# Altium integrated library Silicon Labs Isolation and Power.IntLib: 421 symbols (part 8 of 19)
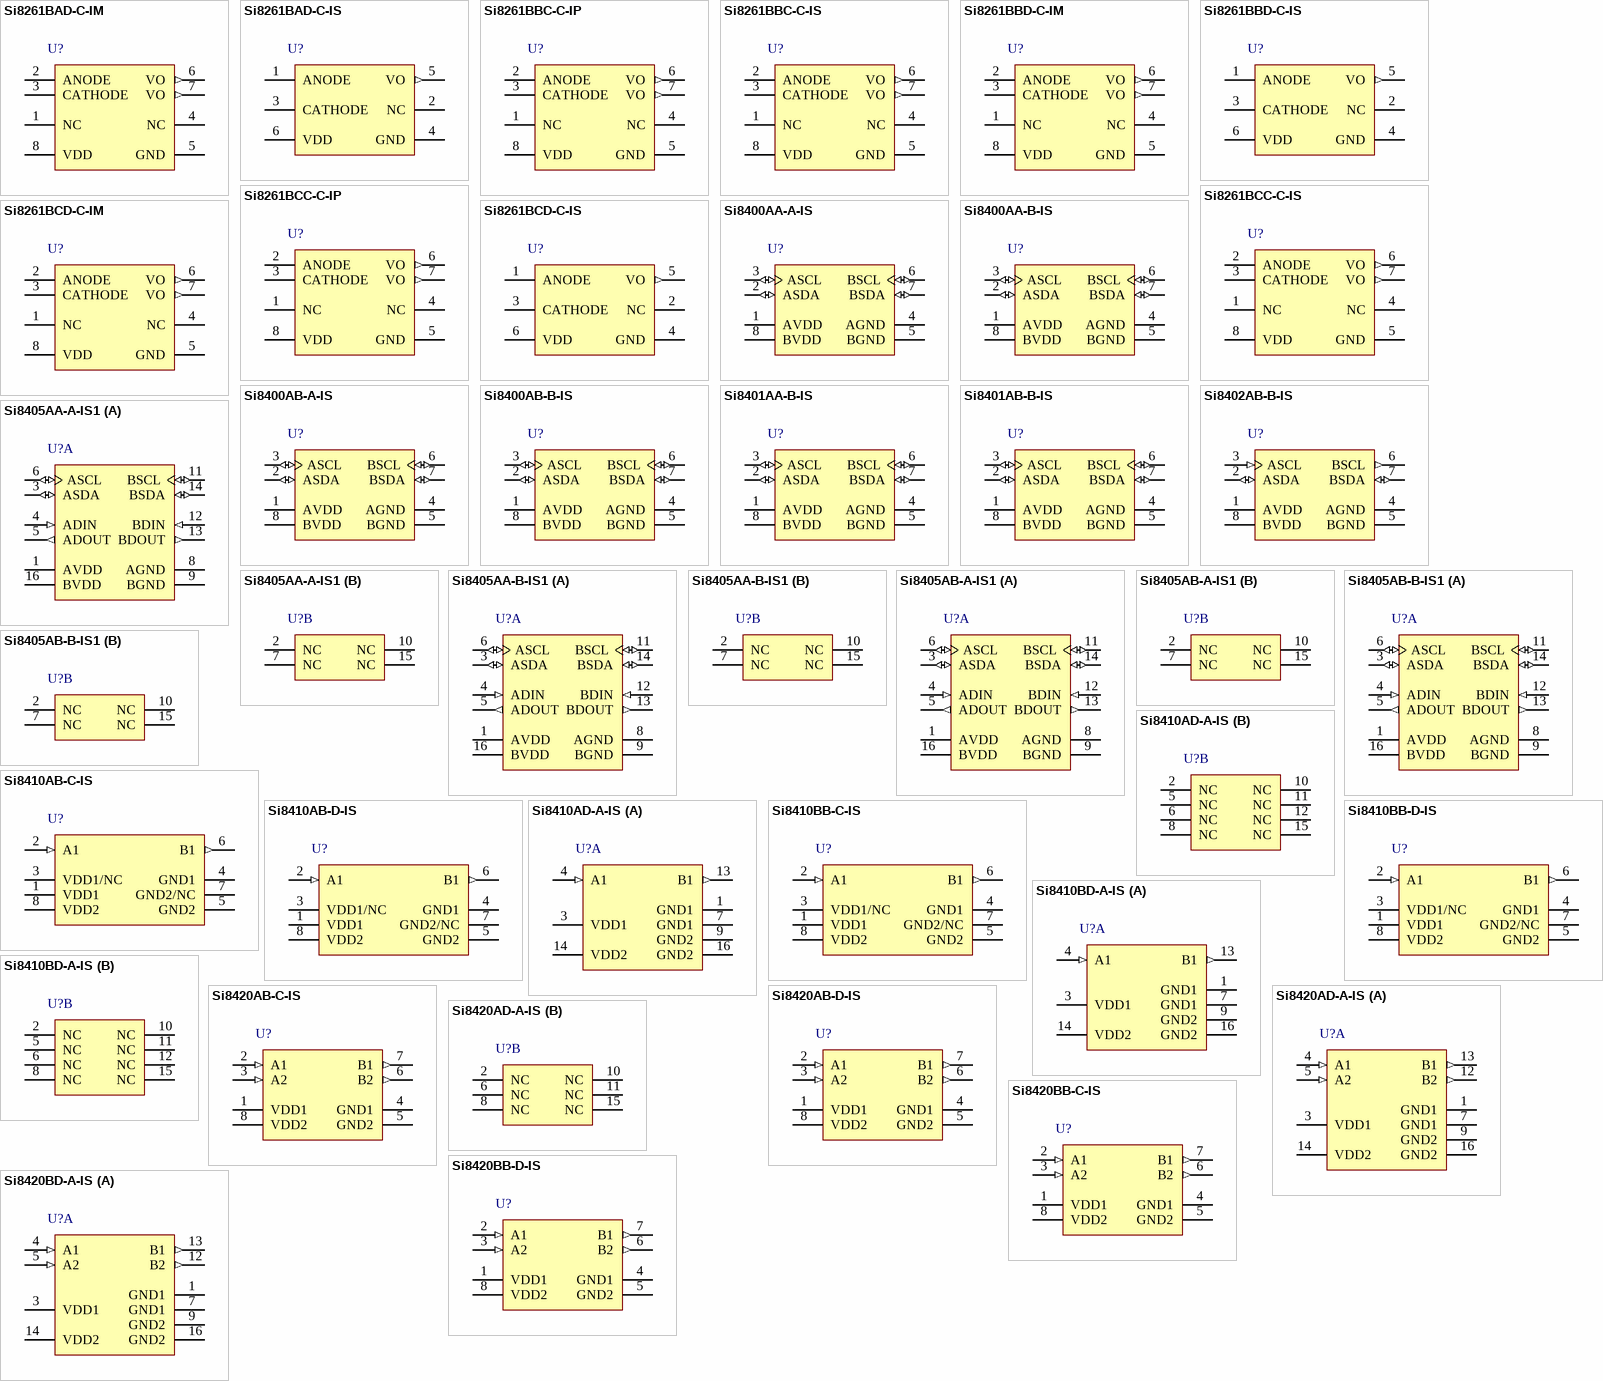
[diagram p21: symbols Si8261BAD-C-IM to Si8420BD-A-IS]

## Si8261BBD-C-IM
designator U?
Led Emulator Input, 4.0 A Isolated Gate Drivers, 5 to 30 V Driver Supply, 5 kVRMS Isolation Rating, -40 to 125 degC, 8-pin LGA; Manufacturer: Silicon Labs; PartNumber: Si8261BBD-C-IM; 10kV surge: TRUE; Driver Supply: 5 to 30 V; Isolation Rating (Input-Output, kVrms): 5; Max. Prop. Delay (ns): 60; Overlap Protection & Dead Time Control: FALSE; UVLO Voltage: 8 V; Sub-Family: ISOdrivers; DatasheetVersion: Rev. 0.9; PackageReference: LGA8; PackageDescription: 8-Pin Land Grid Array, Body 10 x 12.5 mm, Pitch 2.54 mm; Supplier 1: Mouser; Supplier Part Number 1: 634-SI8261BBD-C-IM; Mounting Technology: Surface Mount; Code_IPC: J-STD-020; ComponentLink1Description: Manufacturer URL; ComponentLink1URL: http://www.silabs.com/; ComponentLink2Description: Datasheet; ComponentLink2URL: http://www.silabs.com/Support%20Documents/TechnicalDocs/Si826x.pdf; ComponentLink3Description: Package Specification; ComponentLink3URL: http://www.silabs.com/Support%20Documents/TechnicalDocs/Si826x.pdf
footprint SLAB-LGA8_V (LGA, 8-Leads, Body 12.5x10mm, Pitch 2.54mm)
pins: 1 NC "No connect.", 2 ANODE "Anode of LED emulator. VO follows the signal applied to this input with respect to the CATHODE input.", 3 CATHODE "Cathode of LED emulator. VO follows the signal applied to ANODE with respect to this input", 4 NC "No connect.", 5 GND (power) "External MOSFET source connection and ground reference for VDD. This terminal is typically connected to ground but may be tied to a negative or positive voltage.", 6 VO (out) "Output signal. Both VO pins are required to be shorted together for 4.0 A compliance.", 7 VO (out) "Output signal. Both VO pins are required to be shorted together for 4.0 A compliance.", 8 VDD (power) "Output-side power supply input referenced to GND (30 V max)."

## Si8261BBD-C-IS
designator U?
Led Emulator Input, 4.0 A Isolated Gate Drivers, 5 to 30 V Driver Supply, 5 kVRMS Isolation Rating, -40 to 125 degC, 6-pin SOP; Manufacturer: Silicon Labs; PartNumber: Si8261BBD-C-IS; 10kV surge: TRUE; Driver Supply: 5 to 30 V; Isolation Rating (Input-Output, kVrms): 5; Max. Prop. Delay (ns): 60; Overlap Protection & Dead Time Control: FALSE; UVLO Voltage: 8 V; Sub-Family: ISOdrivers; DatasheetVersion: Rev. 0.9; PackageReference: SDIP6; PackageDescription: 6-Pin SDIP, Body 4.58 x 7.5 mm, Pitch 1.27 mm; Supplier 1: Mouser; Supplier Part Number 1: 634-SI8261BBD-C-IS; Mounting Technology: Surface Mount; ComponentLink1Description: Manufacturer URL; ComponentLink1URL: http://www.silabs.com/; ComponentLink2Description: Datasheet; ComponentLink2URL: http://www.silabs.com/Support%20Documents/TechnicalDocs/Si826x.pdf; ComponentLink3Description: Package Specification; ComponentLink3URL: http://www.silabs.com/Support%20Documents/TechnicalDocs/Si826x.pdf
footprint SLAB-SDIP6_N (SOP, 6-Leads, Body 7.5x4.58mm, Pitch 1.27mm, IPC Medium Density)
footprint SLAB-SDIP6_L (SOP, 6-Leads, Body 7.5x4.58mm, Pitch 1.27mm, IPC High Density)
footprint SLAB-SDIP6_M (SOP, 6-Leads, Body 7.5x4.58mm, Pitch 1.27mm, IPC Low Density)
pins: 1 ANODE "Anode of LED emulator. VO follows the signal applied to this input with respect to the CATHODE input.", 2 NC "No connect.", 3 CATHODE "Cathode of LED emulator. VO follows the signal applied to ANODE with respect to this input.", 4 GND (power) "External MOSFET source connection and ground reference for VDD. This terminal is typically connected to ground but may be tied to a negative or positive voltage.", 5 VO (out) "Output signal.", 6 VDD (power) "Output-side power supply input referenced to GND (30 V max)."

## Si8261BCC-C-IP
designator U?
Led Emulator Input, 4.0 A Isolated Gate Drivers, 5 to 30 V Driver Supply, 3.75 kVRMS Isolation Rating, -40 to 125 degC, 8-pin SOP; Manufacturer: Silicon Labs; PartNumber: Si8261BCC-C-IP; 10kV surge: TRUE; Driver Supply: 5 to 30 V; Isolation Rating (Input-Output, kVrms): 3.75; Max. Prop. Delay (ns): 60; Overlap Protection & Dead Time Control: FALSE; UVLO Voltage: 12 V; Sub-Family: ISOdrivers; DatasheetVersion: Rev. 0.9; PackageReference: DIP8; PackageDescription: 8-Pin Dual In-Line Package, Body 9.65 x 6.35 mm, Pitch 2.54 mm; Supplier 1: Digi-Key; Supplier Part Number 1: 336-2421-5-ND; Supplier 2: Mouser; Supplier Part Number 2: 634-SI8261BCC-C-IP; Mounting Technology: Surface Mount; ComponentLink1Description: Manufacturer URL; ComponentLink1URL: http://www.silabs.com/; ComponentLink2Description: Datasheet; ComponentLink2URL: http://www.silabs.com/Support%20Documents/TechnicalDocs/Si826x.pdf; ComponentLink3Description: Package Specification; ComponentLink3URL: http://www.silabs.com/Support%20Documents/TechnicalDocs/Si826x.pdf
footprint SLAB-DIP8_N (SOP, 8-Leads, Body 9.9x6.6mm, Pitch 2.54mm, IPC Medium Density)
footprint SLAB-DIP8_L (SOP, 8-Leads, Body 9.9x6.6mm, Pitch 2.54mm, IPC High Density)
footprint SLAB-DIP8_M (SOP, 8-Leads, Body 9.9x6.6mm, Pitch 2.54mm, IPC Low Density)
pins: 1 NC "No connect.", 2 ANODE "Anode of LED emulator. VO follows the signal applied to this input with respect to the CATHODE input.", 3 CATHODE "Cathode of LED emulator. VO follows the signal applied to ANODE with respect to this input", 4 NC "No connect.", 5 GND (power) "External MOSFET source connection and ground reference for VDD. This terminal is typically connected to ground but may be tied to a negative or positive voltage.", 6 VO (out) "Output signal. Both VO pins are required to be shorted together for 4.0 A compliance.", 7 VO (out) "Output signal. Both VO pins are required to be shorted together for 4.0 A compliance.", 8 VDD (power) "Output-side power supply input referenced to GND (30 V max)."

## Si8261BCC-C-IS
designator U?
Led Emulator Input, 4.0 A Isolated Gate Drivers, 5 to 30 V Driver Supply, 3.75 kVRMS Isolation Rating, -40 to 125 degC, 8-pin SOIC; Manufacturer: Silicon Labs; PartNumber: Si8261BCC-C-IS; 10kV surge: TRUE; Driver Supply: 5 to 30 V; Isolation Rating (Input-Output, kVrms): 3.75; Max. Prop. Delay (ns): 60; Overlap Protection & Dead Time Control: FALSE; UVLO Voltage: 12 V; Sub-Family: ISOdrivers; DatasheetVersion: Rev. 0.9; PackageReference: SOIC-8-NB; PackageDescription: 8-Pin Narrow Body Plastic Small Outline, Body 4.9 x 3.9 mm, Pitch 1.27 mm; Supplier 1: Digi-Key; Supplier Part Number 1: 336-2420-5-ND; Supplier 2: Mouser; Supplier Part Number 2: 634-SI8261BCC-C-IS; Mounting Technology: Surface Mount; ComponentLink1Description: Manufacturer URL; ComponentLink1URL: http://www.silabs.com/; ComponentLink2Description: Datasheet; ComponentLink2URL: http://www.silabs.com/Support%20Documents/TechnicalDocs/Si826x.pdf; ComponentLink3Description: Package Specification; ComponentLink3URL: http://www.silabs.com/Support%20Documents/TechnicalDocs/Si8220-21.pdf
footprint SLAB-SOIC-8-NB_N (SOIC, 8-Leads, Body 5x4mm, Pitch 1.27mm, IPC Medium Density)
footprint SLAB-SOIC-8-NB_L (SOIC, 8-Leads, Body 5x4mm, Pitch 1.27mm, IPC High Density)
footprint SLAB-SOIC-8-NB_M (SOIC, 8-Leads, Body 5x4mm, Pitch 1.27mm, IPC Low Density)
pins: 1 NC "No connect.", 2 ANODE "Anode of LED emulator. VO follows the signal applied to this input with respect to the CATHODE input.", 3 CATHODE "Cathode of LED emulator. VO follows the signal applied to ANODE with respect to this input", 4 NC "No connect.", 5 GND (power) "External MOSFET source connection and ground reference for VDD. This terminal is typically connected to ground but may be tied to a negative or positive voltage.", 6 VO (out) "Output signal. Both VO pins are required to be shorted together for 4.0 A compliance.", 7 VO (out) "Output signal. Both VO pins are required to be shorted together for 4.0 A compliance.", 8 VDD (power) "Output-side power supply input referenced to GND (30 V max)."

## Si8261BCD-C-IM
designator U?
Led Emulator Input, 4.0 A Isolated Gate Drivers, 5 to 30 V Driver Supply, 5 kVRMS Isolation Rating, -40 to 125 degC, 8-pin LGA; Manufacturer: Silicon Labs; PartNumber: Si8261BCD-C-IM; 10kV surge: TRUE; Driver Supply: 5 to 30 V; Isolation Rating (Input-Output, kVrms): 5; Max. Prop. Delay (ns): 60; Overlap Protection & Dead Time Control: FALSE; UVLO Voltage: 12 V; Sub-Family: ISOdrivers; DatasheetVersion: Rev. 0.9; PackageReference: LGA8; PackageDescription: 8-Pin Land Grid Array, Body 10 x 12.5 mm, Pitch 2.54 mm; Supplier 1: Digi-Key; Supplier Part Number 1: 336-2419-ND; Supplier 2: Mouser; Supplier Part Number 2: 634-SI8261BCD-C-IM; Mounting Technology: Surface Mount; Code_IPC: J-STD-020; ComponentLink1Description: Manufacturer URL; ComponentLink1URL: http://www.silabs.com/; ComponentLink2Description: Datasheet; ComponentLink2URL: http://www.silabs.com/Support%20Documents/TechnicalDocs/Si826x.pdf; ComponentLink3Description: Package Specification; ComponentLink3URL: http://www.silabs.com/Support%20Documents/TechnicalDocs/Si826x.pdf
footprint SLAB-LGA8_V (LGA, 8-Leads, Body 12.5x10mm, Pitch 2.54mm)
pins: 1 NC "No connect.", 2 ANODE "Anode of LED emulator. VO follows the signal applied to this input with respect to the CATHODE input.", 3 CATHODE "Cathode of LED emulator. VO follows the signal applied to ANODE with respect to this input", 4 NC "No connect.", 5 GND (power) "External MOSFET source connection and ground reference for VDD. This terminal is typically connected to ground but may be tied to a negative or positive voltage.", 6 VO (out) "Output signal. Both VO pins are required to be shorted together for 4.0 A compliance.", 7 VO (out) "Output signal. Both VO pins are required to be shorted together for 4.0 A compliance.", 8 VDD (power) "Output-side power supply input referenced to GND (30 V max)."

## Si8261BCD-C-IS
designator U?
Led Emulator Input, 4.0 A Isolated Gate Drivers, 5 to 30 V Driver Supply, 5 kVRMS Isolation Rating, -40 to 125 degC, 6-pin SOP; Manufacturer: Silicon Labs; PartNumber: Si8261BCD-C-IS; 10kV surge: TRUE; Driver Supply: 5 to 30 V; Isolation Rating (Input-Output, kVrms): 5; Max. Prop. Delay (ns): 60; Overlap Protection & Dead Time Control: FALSE; UVLO Voltage: 12 V; Sub-Family: ISOdrivers; DatasheetVersion: Rev. 0.9; PackageReference: SDIP6; PackageDescription: 6-Pin SDIP, Body 4.58 x 7.5 mm, Pitch 1.27 mm; Supplier 1: Digi-Key; Supplier Part Number 1: 336-2418-5-ND; Supplier 2: Mouser; Supplier Part Number 2: 634-SI8261BCD-C-IS; Mounting Technology: Surface Mount; ComponentLink1Description: Manufacturer URL; ComponentLink1URL: http://www.silabs.com/; ComponentLink2Description: Datasheet; ComponentLink2URL: http://www.silabs.com/Support%20Documents/TechnicalDocs/Si826x.pdf; ComponentLink3Description: Package Specification; ComponentLink3URL: http://www.silabs.com/Support%20Documents/TechnicalDocs/Si826x.pdf
footprint SLAB-SDIP6_N (SOP, 6-Leads, Body 7.5x4.58mm, Pitch 1.27mm, IPC Medium Density)
footprint SLAB-SDIP6_L (SOP, 6-Leads, Body 7.5x4.58mm, Pitch 1.27mm, IPC High Density)
footprint SLAB-SDIP6_M (SOP, 6-Leads, Body 7.5x4.58mm, Pitch 1.27mm, IPC Low Density)
pins: 1 ANODE "Anode of LED emulator. VO follows the signal applied to this input with respect to the CATHODE input.", 2 NC "No connect.", 3 CATHODE "Cathode of LED emulator. VO follows the signal applied to ANODE with respect to this input.", 4 GND (power) "External MOSFET source connection and ground reference for VDD. This terminal is typically connected to ground but may be tied to a negative or positive voltage.", 5 VO (out) "Output signal.", 6 VDD (power) "Output-side power supply input referenced to GND (30 V max)."

## Si8400AA-A-IS
designator U?
Bidirectional I2C Isolator with Unidirectional Digital Channels, 1.7 Mbps, 1 kVRMS Isolation Rating, -40 to 125 degC, 8-pin SOIC; Manufacturer: Silicon Labs; PartNumber: Si8400AA-A-IS; 10kV surge: FALSE; Isolation Rating (kV): 1; Maximum Data Rate (Mbps): 1.7; Maximum Propagation Delay (ns): 40; Sub-Family: Isolators; DatasheetVersion: Rev. 1.4; PackageReference: SOIC-8-NB; PackageDescription: 8-Pin Narrow Body Plastic Small Outline, Body 4.9 x 3.9 mm, Pitch 1.27 mm; Supplier 1: Digi-Key; Supplier Part Number 1: SI8400AA-A-IS-ND; AEC-Q100: FALSE; Channel Type: Bidirectional; Enable Control: FALSE; Mounting Technology: Surface Mount; ComponentLink1Description: Manufacturer URL; ComponentLink1URL: http://www.silabs.com/; ComponentLink2Description: Datasheet; ComponentLink2URL: http://www.silabs.com/Support%20Documents/TechnicalDocs/Si840x.pdf; ComponentLink3Description: Package Specification; ComponentLink3URL: http://www.silabs.com/Support%20Documents/TechnicalDocs/Si8220-21.pdf
footprint SLAB-SOIC-8-NB_N (SOIC, 8-Leads, Body 5x4mm, Pitch 1.27mm, IPC Medium Density)
footprint SLAB-SOIC-8-NB_L (SOIC, 8-Leads, Body 5x4mm, Pitch 1.27mm, IPC High Density)
footprint SLAB-SOIC-8-NB_M (SOIC, 8-Leads, Body 5x4mm, Pitch 1.27mm, IPC Low Density)
pins: 1 AVDD (power) "Side A power supply terminal; connect to a source of 3.0 to 5.5 V.", 2 ASDA (io) "Side A data (open drain) input or output.", 3 ASCL (io) "Side A clock input or output. Open drain I/O for Si8400/01.", 4 AGND (power) "Side A ground terminal.", 5 BGND (power) "Side B ground terminal", 6 BSCL (io) "Side B clock input or output. Open drain I/O for Si8400/01.", 7 BSDA (io) "Side B data (open drain) input or output.", 8 BVDD (power) "Side B power supply terminal; connect to a source of 3.0 to 5.5 V."

## Si8400AA-B-IS
designator U?
Bidirectional I2C Isolator with Unidirectional Digital Channels, 1.7 Mbps, 1 kVRMS Isolation Rating, -40 to 125 degC, 8-pin SOIC; Manufacturer: Silicon Labs; PartNumber: Si8400AA-B-IS; 10kV surge: FALSE; Isolation Rating (kV): 1; Maximum Data Rate (Mbps): 1.7; Maximum Propagation Delay (ns): 40; Sub-Family: Isolators; DatasheetVersion: Rev. 1.4; PackageReference: SOIC-8-NB; PackageDescription: 8-Pin Narrow Body Plastic Small Outline, Body 4.9 x 3.9 mm, Pitch 1.27 mm; Supplier 1: Digi-Key; Supplier Part Number 1: SI8400AA-B-IS-ND; Supplier 2: Mouser; Supplier Part Number 2: 634-SI8400AA-B-IS; AEC-Q100: FALSE; Channel Type: Bidirectional; Enable Control: FALSE; Mounting Technology: Surface Mount; ComponentLink1Description: Manufacturer URL; ComponentLink1URL: http://www.silabs.com/; ComponentLink2Description: Datasheet; ComponentLink2URL: http://www.silabs.com/Support%20Documents/TechnicalDocs/Si840x.pdf; ComponentLink3Description: Package Specification; ComponentLink3URL: http://www.silabs.com/Support%20Documents/TechnicalDocs/Si8220-21.pdf
footprint SLAB-SOIC-8-NB_N (SOIC, 8-Leads, Body 5x4mm, Pitch 1.27mm, IPC Medium Density)
footprint SLAB-SOIC-8-NB_L (SOIC, 8-Leads, Body 5x4mm, Pitch 1.27mm, IPC High Density)
footprint SLAB-SOIC-8-NB_M (SOIC, 8-Leads, Body 5x4mm, Pitch 1.27mm, IPC Low Density)
pins: 1 AVDD (power) "Side A power supply terminal; connect to a source of 3.0 to 5.5 V.", 2 ASDA (io) "Side A data (open drain) input or output.", 3 ASCL (io) "Side A clock input or output. Open drain I/O for Si8400/01.", 4 AGND (power) "Side A ground terminal.", 5 BGND (power) "Side B ground terminal", 6 BSCL (io) "Side B clock input or output. Open drain I/O for Si8400/01.", 7 BSDA (io) "Side B data (open drain) input or output.", 8 BVDD (power) "Side B power supply terminal; connect to a source of 3.0 to 5.5 V."

## Si8400AB-A-IS
designator U?
Bidirectional I2C Isolator with Unidirectional Digital Channels, 1.7 Mbps, 2.5 kVRMS Isolation Rating, -40 to 125 degC, 8-pin SOIC; Manufacturer: Silicon Labs; PartNumber: Si8400AB-A-IS; 10kV surge: FALSE; Isolation Rating (kV): 2.5; Maximum Data Rate (Mbps): 1.7; Maximum Propagation Delay (ns): 40; Sub-Family: Isolators; DatasheetVersion: Rev. 1.4; PackageReference: SOIC-8-NB; PackageDescription: 8-Pin Narrow Body Plastic Small Outline, Body 4.9 x 3.9 mm, Pitch 1.27 mm; Supplier 1: Digi-Key; Supplier Part Number 1: SI8400AB-A-IS-ND; AEC-Q100: FALSE; Channel Type: Bidirectional; Enable Control: FALSE; Mounting Technology: Surface Mount; ComponentLink1Description: Manufacturer URL; ComponentLink1URL: http://www.silabs.com/; ComponentLink2Description: Datasheet; ComponentLink2URL: http://www.silabs.com/Support%20Documents/TechnicalDocs/Si840x.pdf; ComponentLink3Description: Package Specification; ComponentLink3URL: http://www.silabs.com/Support%20Documents/TechnicalDocs/Si8220-21.pdf
footprint SLAB-SOIC-8-NB_N (SOIC, 8-Leads, Body 5x4mm, Pitch 1.27mm, IPC Medium Density)
footprint SLAB-SOIC-8-NB_L (SOIC, 8-Leads, Body 5x4mm, Pitch 1.27mm, IPC High Density)
footprint SLAB-SOIC-8-NB_M (SOIC, 8-Leads, Body 5x4mm, Pitch 1.27mm, IPC Low Density)
pins: 1 AVDD (power) "Side A power supply terminal; connect to a source of 3.0 to 5.5 V.", 2 ASDA (io) "Side A data (open drain) input or output.", 3 ASCL (io) "Side A clock input or output. Open drain I/O for Si8400/01.", 4 AGND (power) "Side A ground terminal.", 5 BGND (power) "Side B ground terminal", 6 BSCL (io) "Side B clock input or output. Open drain I/O for Si8400/01.", 7 BSDA (io) "Side B data (open drain) input or output.", 8 BVDD (power) "Side B power supply terminal; connect to a source of 3.0 to 5.5 V."

## Si8400AB-B-IS
designator U?
Bidirectional I2C Isolator with Unidirectional Digital Channels, 1.7 Mbps, 2.5 kVRMS Isolation Rating, -40 to 125 degC, 8-pin SOIC; Manufacturer: Silicon Labs; PartNumber: Si8400AB-B-IS; 10kV surge: FALSE; Isolation Rating (kV): 2.5; Maximum Data Rate (Mbps): 1.7; Maximum Propagation Delay (ns): 40; Sub-Family: Isolators; DatasheetVersion: Rev. 1.4; PackageReference: SOIC-8-NB; PackageDescription: 8-Pin Narrow Body Plastic Small Outline, Body 4.9 x 3.9 mm, Pitch 1.27 mm; Supplier 1: Digi-Key; Supplier Part Number 1: SI8400AB-B-IS-ND; Supplier 2: Mouser; Supplier Part Number 2: 634-SI8400AB-B-IS; AEC-Q100: FALSE; Channel Type: Bidirectional; Enable Control: FALSE; Mounting Technology: Surface Mount; ComponentLink1Description: Manufacturer URL; ComponentLink1URL: http://www.silabs.com/; ComponentLink2Description: Datasheet; ComponentLink2URL: http://www.silabs.com/Support%20Documents/TechnicalDocs/Si840x.pdf; ComponentLink3Description: Package Specification; ComponentLink3URL: http://www.silabs.com/Support%20Documents/TechnicalDocs/Si8220-21.pdf
footprint SLAB-SOIC-8-NB_N (SOIC, 8-Leads, Body 5x4mm, Pitch 1.27mm, IPC Medium Density)
footprint SLAB-SOIC-8-NB_L (SOIC, 8-Leads, Body 5x4mm, Pitch 1.27mm, IPC High Density)
footprint SLAB-SOIC-8-NB_M (SOIC, 8-Leads, Body 5x4mm, Pitch 1.27mm, IPC Low Density)
pins: 1 AVDD (power) "Side A power supply terminal; connect to a source of 3.0 to 5.5 V.", 2 ASDA (io) "Side A data (open drain) input or output.", 3 ASCL (io) "Side A clock input or output. Open drain I/O for Si8400/01.", 4 AGND (power) "Side A ground terminal.", 5 BGND (power) "Side B ground terminal", 6 BSCL (io) "Side B clock input or output. Open drain I/O for Si8400/01.", 7 BSDA (io) "Side B data (open drain) input or output.", 8 BVDD (power) "Side B power supply terminal; connect to a source of 3.0 to 5.5 V."

## Si8401AA-B-IS
designator U?
Bidirectional I2C Isolator with Unidirectional Digital Channels, 1 kVRMS Isolation Rating, -40 to 125 degC, 8-pin SOIC; Manufacturer: Silicon Labs; PartNumber: Si8401AA-B-IS; 10kV surge: FALSE; Channel Type: Unidirectional+Bidirectional; Isolation Rating (kV): 1; Maximum Propagation Delay (ns): 40; Sub-Family: Isolators; DatasheetVersion: Rev. 1.4; PackageReference: SOIC-8-NB; PackageDescription: 8-Pin Narrow Body Plastic Small Outline, Body 4.9 x 3.9 mm, Pitch 1.27 mm; Supplier 1: Digi-Key; Supplier Part Number 1: SI8401AA-B-IS-ND; Supplier 2: Mouser; Supplier Part Number 2: 634-SI8401AA-B-IS; AEC-Q100: FALSE; Enable Control: FALSE; Mounting Technology: Surface Mount; ComponentLink1Description: Manufacturer URL; ComponentLink1URL: http://www.silabs.com/; ComponentLink2Description: Datasheet; ComponentLink2URL: http://www.silabs.com/Support%20Documents/TechnicalDocs/Si840x.pdf; ComponentLink3Description: Package Specification; ComponentLink3URL: http://www.silabs.com/Support%20Documents/TechnicalDocs/Si8220-21.pdf
footprint SLAB-SOIC-8-NB_N (SOIC, 8-Leads, Body 5x4mm, Pitch 1.27mm, IPC Medium Density)
footprint SLAB-SOIC-8-NB_L (SOIC, 8-Leads, Body 5x4mm, Pitch 1.27mm, IPC High Density)
footprint SLAB-SOIC-8-NB_M (SOIC, 8-Leads, Body 5x4mm, Pitch 1.27mm, IPC Low Density)
pins: 1 AVDD (power) "Side A power supply terminal; connect to a source of 3.0 to 5.5 V.", 2 ASDA (io) "Side A data (open drain) input or output.", 3 ASCL (io) "Side A clock input or output. Open drain I/O for Si8400/01.", 4 AGND (power) "Side A ground terminal.", 5 BGND (power) "Side B ground terminal", 6 BSCL (io) "Side B clock input or output. Open drain I/O for Si8400/01.", 7 BSDA (io) "Side B data (open drain) input or output.", 8 BVDD (power) "Side B power supply terminal; connect to a source of 3.0 to 5.5 V."

## Si8401AB-B-IS
designator U?
Bidirectional I2C Isolator with Unidirectional Digital Channels, 2.5 kVRMS Isolation Rating, -40 to 125 degC, 8-pin SOIC; Manufacturer: Silicon Labs; PartNumber: Si8401AB-B-IS; 10kV surge: FALSE; Channel Type: Unidirectional+Bidirectional; Isolation Rating (kV): 2.5; Maximum Propagation Delay (ns): 40; Sub-Family: Isolators; DatasheetVersion: Rev. 1.4; PackageReference: SOIC-8-NB; PackageDescription: 8-Pin Narrow Body Plastic Small Outline, Body 4.9 x 3.9 mm, Pitch 1.27 mm; Supplier 1: Digi-Key; Supplier Part Number 1: SI8401AB-B-IS-ND; Supplier 2: Mouser; Supplier Part Number 2: 634-SI8401AB-B-IS; AEC-Q100: FALSE; Enable Control: FALSE; Mounting Technology: Surface Mount; ComponentLink1Description: Manufacturer URL; ComponentLink1URL: http://www.silabs.com/; ComponentLink2Description: Datasheet; ComponentLink2URL: http://www.silabs.com/Support%20Documents/TechnicalDocs/Si840x.pdf; ComponentLink3Description: Package Specification; ComponentLink3URL: http://www.silabs.com/Support%20Documents/TechnicalDocs/Si8220-21.pdf
footprint SLAB-SOIC-8-NB_N (SOIC, 8-Leads, Body 5x4mm, Pitch 1.27mm, IPC Medium Density)
footprint SLAB-SOIC-8-NB_L (SOIC, 8-Leads, Body 5x4mm, Pitch 1.27mm, IPC High Density)
footprint SLAB-SOIC-8-NB_M (SOIC, 8-Leads, Body 5x4mm, Pitch 1.27mm, IPC Low Density)
pins: 1 AVDD (power) "Side A power supply terminal; connect to a source of 3.0 to 5.5 V.", 2 ASDA (io) "Side A data (open drain) input or output.", 3 ASCL (io) "Side A clock input or output. Open drain I/O for Si8400/01.", 4 AGND (power) "Side A ground terminal.", 5 BGND (power) "Side B ground terminal", 6 BSCL (io) "Side B clock input or output. Open drain I/O for Si8400/01.", 7 BSDA (io) "Side B data (open drain) input or output.", 8 BVDD (power) "Side B power supply terminal; connect to a source of 3.0 to 5.5 V."

## Si8402AB-B-IS
designator U?
Bidirectional I2C Isolator with Unidirectional Digital Channels, 1.7 Mbps, 2.5 kVRMS Isolation Rating, -40 to 125 degC, 8-pin SOIC; Manufacturer: Silicon Labs; PartNumber: Si8402AB-B-IS; 10kV surge: FALSE; Channel Type: Unidirectional+Bidirectional; Isolation Rating (kV): 2.5; Maximum Data Rate (Mbps): 1.7; Maximum Propagation Delay (ns): 40; Sub-Family: Isolators; DatasheetVersion: Rev. 1.4; PackageReference: SOIC-8-NB; PackageDescription: 8-Pin Narrow Body Plastic Small Outline, Body 4.9 x 3.9 mm, Pitch 1.27 mm; Supplier 1: Digi-Key; Supplier Part Number 1: SI8402AB-B-IS-ND; Supplier 2: Mouser; Supplier Part Number 2: 634-SI8402AB-B-IS; AEC-Q100: FALSE; Enable Control: FALSE; Mounting Technology: Surface Mount; ComponentLink1Description: Manufacturer URL; ComponentLink1URL: http://www.silabs.com/; ComponentLink2Description: Datasheet; ComponentLink2URL: http://www.silabs.com/Support%20Documents/TechnicalDocs/Si840x.pdf; ComponentLink3Description: Package Specification; ComponentLink3URL: http://www.silabs.com/Support%20Documents/TechnicalDocs/Si8220-21.pdf
footprint SLAB-SOIC-8-NB_N (SOIC, 8-Leads, Body 5x4mm, Pitch 1.27mm, IPC Medium Density)
footprint SLAB-SOIC-8-NB_L (SOIC, 8-Leads, Body 5x4mm, Pitch 1.27mm, IPC High Density)
footprint SLAB-SOIC-8-NB_M (SOIC, 8-Leads, Body 5x4mm, Pitch 1.27mm, IPC Low Density)
pins: 1 AVDD (power) "Side A power supply terminal; connect to a source of 3.0 to 5.5 V.", 2 ASDA (io) "Side A data (open drain) input or output.", 3 ASCL (in) "Side A clock input or output. Standard CMOS input for Si8602.", 4 AGND (power) "Side A ground terminal.", 5 BGND (power) "Side B ground terminal", 6 BSCL (out) "Side B clock input or output. Push-pull output for Si8602.", 7 BSDA (io) "Side B data (open drain) input or output.", 8 BVDD (power) "Side B power supply terminal; connect to a source of 3.0 to 5.5 V."

## Si8405AA-A-IS1
designator U?
Bidirectional I2C Isolator with Unidirectional Digital Channels, 1.7 Mbps, 1 kVRMS Isolation Rating, -40 to 125 degC, 16-pin SOIC; Manufacturer: Silicon Labs; PartNumber: Si8405AA-A-IS1; 10kV surge: FALSE; Channel Type: Unidirectional+Bidirectional; Isolation Rating (kV): 1; Maximum Data Rate (Mbps): 1.7; Maximum Propagation Delay (ns): 40; Sub-Family: Isolators; DatasheetVersion: Rev. 1.4; PackageReference: SOIC-16-NB; PackageDescription: 16-Pin Small-Outline Integrated Circuit, Body 9.9 x 3.9 mm, Pitch 1.27 mm; Supplier 1: Digi-Key; Supplier Part Number 1: SI8405AA-A-IS1-ND; AEC-Q100: FALSE; Enable Control: FALSE; Mounting Technology: Surface Mount; Code_JEDEC: MS-012; Code_IPC: J-STD-020; ComponentLink1Description: Manufacturer URL; ComponentLink1URL: http://www.silabs.com/; ComponentLink2Description: Datasheet; ComponentLink2URL: http://www.silabs.com/Support%20Documents/TechnicalDocs/Si840x.pdf; ComponentLink3Description: Package Specification; ComponentLink3URL: http://www.silabs.com/Support%20Documents/TechnicalDocs/si2401.pdf
footprint SLAB-SOIC-16-NB_N (SOIC, 16-Leads, Body 9.9x3.9mm, Pitch 1.27mm, IPC Medium Density)
footprint SLAB-SOIC-16-NB_L (SOIC, 16-Leads, Body 9.9x3.9mm, Pitch 1.27mm, IPC High Density)
footprint SLAB-SOIC-16-NB_M (SOIC, 16-Leads, Body 9.9x3.9mm, Pitch 1.27mm, IPC Low Density)
part A pins: 1 AVDD (power) "Side A Power Supply Terminal. Connect to a source of 3.0 to 5.5 V.", 3 ASDA (io) "Side A Data (open drain) Input or Output.", 4 ADIN (in) "Side A Standard CMOS Digital Input (non I2C).", 5 ADOUT (out) "Side A Digital Push-Pull Output (non I2C).", 6 ASCL (io) "Side A Clock (open drain) Input or Output.", 8 AGND (power) "Side A Ground Terminal.", 9 BGND (power) "Side B Ground Terminal.", 11 BSCL (io) "Side B Clock (open drain) Input or Output.", 12 BDIN (in) "Side B Standard CMOS Digital Input (non I2C).", 13 BDOUT (out) "Side B Digital Push-Pull Output (non I2C).", 14 BSDA (io) "Side B Data (open drain) Input or Output.", 16 BVDD (power) "Side B Power Supply Terminal. Connect to a source of 3.0 to 5.5 V."
part B pins: 2 NC "No connection.", 7 NC "No connection.", 10 NC "No connection.", 15 NC "No connection."

## Si8405AA-B-IS1
designator U?
Bidirectional I2C Isolator with Unidirectional Digital Channels, 1.7 Mbps, 1 kVRMS Isolation Rating, -40 to 125 degC, 16-pin SOIC; Manufacturer: Silicon Labs; PartNumber: Si8405AA-B-IS1; 10kV surge: FALSE; Channel Type: Unidirectional+Bidirectional; Isolation Rating (kV): 1; Maximum Data Rate (Mbps): 1.7; Maximum Propagation Delay (ns): 40; Sub-Family: Isolators; DatasheetVersion: Rev. 1.4; PackageReference: SOIC-16-NB; PackageDescription: 16-Pin Small-Outline Integrated Circuit, Body 9.9 x 3.9 mm, Pitch 1.27 mm; Supplier 1: Digi-Key; Supplier Part Number 1: SI8405AA-B-IS1-ND; Supplier 2: Mouser; Supplier Part Number 2: 634-SI8405AA-B-IS1; AEC-Q100: FALSE; Enable Control: FALSE; Mounting Technology: Surface Mount; Code_JEDEC: MS-012; Code_IPC: J-STD-020; ComponentLink1Description: Manufacturer URL; ComponentLink1URL: http://www.silabs.com/; ComponentLink2Description: Datasheet; ComponentLink2URL: http://www.silabs.com/Support%20Documents/TechnicalDocs/Si840x.pdf; ComponentLink3Description: Package Specification; ComponentLink3URL: http://www.silabs.com/Support%20Documents/TechnicalDocs/si2401.pdf
footprint SLAB-SOIC-16-NB_N (SOIC, 16-Leads, Body 9.9x3.9mm, Pitch 1.27mm, IPC Medium Density)
footprint SLAB-SOIC-16-NB_L (SOIC, 16-Leads, Body 9.9x3.9mm, Pitch 1.27mm, IPC High Density)
footprint SLAB-SOIC-16-NB_M (SOIC, 16-Leads, Body 9.9x3.9mm, Pitch 1.27mm, IPC Low Density)
part A pins: 1 AVDD (power) "Side A Power Supply Terminal. Connect to a source of 3.0 to 5.5 V.", 3 ASDA (io) "Side A Data (open drain) Input or Output.", 4 ADIN (in) "Side A Standard CMOS Digital Input (non I2C).", 5 ADOUT (out) "Side A Digital Push-Pull Output (non I2C).", 6 ASCL (io) "Side A Clock (open drain) Input or Output.", 8 AGND (power) "Side A Ground Terminal.", 9 BGND (power) "Side B Ground Terminal.", 11 BSCL (io) "Side B Clock (open drain) Input or Output.", 12 BDIN (in) "Side B Standard CMOS Digital Input (non I2C).", 13 BDOUT (out) "Side B Digital Push-Pull Output (non I2C).", 14 BSDA (io) "Side B Data (open drain) Input or Output.", 16 BVDD (power) "Side B Power Supply Terminal. Connect to a source of 3.0 to 5.5 V."
part B pins: 2 NC "No connection.", 7 NC "No connection.", 10 NC "No connection.", 15 NC "No connection."

## Si8405AB-A-IS1
designator U?
Bidirectional I2C Isolator with Unidirectional Digital Channels, 1.7 Mbps, 2.5 kVRMS Isolation Rating, -40 to 125 degC, 16-pin SOIC; Manufacturer: Silicon Labs; PartNumber: Si8405AB-A-IS1; 10kV surge: FALSE; Channel Type: Unidirectional+Bidirectional; Isolation Rating (kV): 2.5; Maximum Data Rate (Mbps): 1.7; Maximum Propagation Delay (ns): 40; Sub-Family: Isolators; DatasheetVersion: Rev. 1.4; PackageReference: SOIC-16-NB; PackageDescription: 16-Pin Small-Outline Integrated Circuit, Body 9.9 x 3.9 mm, Pitch 1.27 mm; Supplier 1: Digi-Key; Supplier Part Number 1: SI8405AB-A-IS1-ND; AEC-Q100: FALSE; Enable Control: FALSE; Mounting Technology: Surface Mount; Code_JEDEC: MS-012; Code_IPC: J-STD-020; ComponentLink1Description: Manufacturer URL; ComponentLink1URL: http://www.silabs.com/; ComponentLink2Description: Datasheet; ComponentLink2URL: http://www.silabs.com/Support%20Documents/TechnicalDocs/Si840x.pdf; ComponentLink3Description: Package Specification; ComponentLink3URL: http://www.silabs.com/Support%20Documents/TechnicalDocs/si2401.pdf
footprint SLAB-SOIC-16-NB_N (SOIC, 16-Leads, Body 9.9x3.9mm, Pitch 1.27mm, IPC Medium Density)
footprint SLAB-SOIC-16-NB_L (SOIC, 16-Leads, Body 9.9x3.9mm, Pitch 1.27mm, IPC High Density)
footprint SLAB-SOIC-16-NB_M (SOIC, 16-Leads, Body 9.9x3.9mm, Pitch 1.27mm, IPC Low Density)
part A pins: 1 AVDD (power) "Side A Power Supply Terminal. Connect to a source of 3.0 to 5.5 V.", 3 ASDA (io) "Side A Data (open drain) Input or Output.", 4 ADIN (in) "Side A Standard CMOS Digital Input (non I2C).", 5 ADOUT (out) "Side A Digital Push-Pull Output (non I2C).", 6 ASCL (io) "Side A Clock (open drain) Input or Output.", 8 AGND (power) "Side A Ground Terminal.", 9 BGND (power) "Side B Ground Terminal.", 11 BSCL (io) "Side B Clock (open drain) Input or Output.", 12 BDIN (in) "Side B Standard CMOS Digital Input (non I2C).", 13 BDOUT (out) "Side B Digital Push-Pull Output (non I2C).", 14 BSDA (io) "Side B Data (open drain) Input or Output.", 16 BVDD (power) "Side B Power Supply Terminal. Connect to a source of 3.0 to 5.5 V."
part B pins: 2 NC "No connection.", 7 NC "No connection.", 10 NC "No connection.", 15 NC "No connection."

## Si8405AB-B-IS1
designator U?
Bidirectional I2C Isolator with Unidirectional Digital Channels, 1.7 Mbps, 2.5 kVRMS Isolation Rating, -40 to 125 degC, 16-pin SOIC; Manufacturer: Silicon Labs; PartNumber: Si8405AB-B-IS1; 10kV surge: FALSE; Channel Type: Unidirectional+Bidirectional; Isolation Rating (kV): 2.5; Maximum Data Rate (Mbps): 1.7; Maximum Propagation Delay (ns): 40; Sub-Family: Isolators; DatasheetVersion: Rev. 1.4; PackageReference: SOIC-16-NB; PackageDescription: 16-Pin Small-Outline Integrated Circuit, Body 9.9 x 3.9 mm, Pitch 1.27 mm; Supplier 1: Digi-Key; Supplier Part Number 1: SI8405AB-B-IS1-ND; Supplier 2: Mouser; Supplier Part Number 2: 634-SI8405AB-B-IS1; AEC-Q100: FALSE; Enable Control: FALSE; Mounting Technology: Surface Mount; Code_JEDEC: MS-012; Code_IPC: J-STD-020; ComponentLink1Description: Manufacturer URL; ComponentLink1URL: http://www.silabs.com/; ComponentLink2Description: Datasheet; ComponentLink2URL: http://www.silabs.com/Support%20Documents/TechnicalDocs/Si840x.pdf; ComponentLink3Description: Package Specification; ComponentLink3URL: http://www.silabs.com/Support%20Documents/TechnicalDocs/si2401.pdf
footprint SLAB-SOIC-16-NB_N (SOIC, 16-Leads, Body 9.9x3.9mm, Pitch 1.27mm, IPC Medium Density)
footprint SLAB-SOIC-16-NB_L (SOIC, 16-Leads, Body 9.9x3.9mm, Pitch 1.27mm, IPC High Density)
footprint SLAB-SOIC-16-NB_M (SOIC, 16-Leads, Body 9.9x3.9mm, Pitch 1.27mm, IPC Low Density)
part A pins: 1 AVDD (power) "Side A Power Supply Terminal. Connect to a source of 3.0 to 5.5 V.", 3 ASDA (io) "Side A Data (open drain) Input or Output.", 4 ADIN (in) "Side A Standard CMOS Digital Input (non I2C).", 5 ADOUT (out) "Side A Digital Push-Pull Output (non I2C).", 6 ASCL (io) "Side A Clock (open drain) Input or Output.", 8 AGND (power) "Side A Ground Terminal.", 9 BGND (power) "Side B Ground Terminal.", 11 BSCL (io) "Side B Clock (open drain) Input or Output.", 12 BDIN (in) "Side B Standard CMOS Digital Input (non I2C).", 13 BDOUT (out) "Side B Digital Push-Pull Output (non I2C).", 14 BSDA (io) "Side B Data (open drain) Input or Output.", 16 BVDD (power) "Side B Power Supply Terminal. Connect to a source of 3.0 to 5.5 V."
part B pins: 2 NC "No connection.", 7 NC "No connection.", 10 NC "No connection.", 15 NC "No connection."

## Si8410AB-C-IS
designator U?
Low-Power Single and Dual-Channel Digital Isolator, 1 Mbps, 2.5 kVRMS Isolation Rating, -40 to 125 degC, 8-pin SOIC; Manufacturer: Silicon Labs; PartNumber: Si8410AB-C-IS; Note: 0; 10kV surge: FALSE; Channel Type: Unidirectional; Isolation Rating (kV): 2.5; Maximum Data Rate (Mbps): 1; Maximum Propagation Delay (ns): 35; Sub-Family: Isolators; DatasheetVersion: Rev. 1.4; PackageReference: SOIC-8-NB; PackageDescription: 8-Pin Narrow Body Plastic Small Outline, Body 4.9 x 3.9 mm, Pitch 1.27 mm; AEC-Q100: FALSE; Enable Control: FALSE; Mounting Technology: Surface Mount; ComponentLink1Description: Manufacturer URL; ComponentLink1URL: http://www.silabs.com/; ComponentLink2Description: Datasheet; ComponentLink2URL: http://www.silabs.com/Support%20Documents/TechnicalDocs/Si8410.pdf; ComponentLink3Description: Package Specification; ComponentLink3URL: http://www.silabs.com/Support%20Documents/TechnicalDocs/Si8220-21.pdf
footprint SLAB-SOIC-8-NB_N (SOIC, 8-Leads, Body 5x4mm, Pitch 1.27mm, IPC Medium Density)
footprint SLAB-SOIC-8-NB_L (SOIC, 8-Leads, Body 5x4mm, Pitch 1.27mm, IPC High Density)
footprint SLAB-SOIC-8-NB_M (SOIC, 8-Leads, Body 5x4mm, Pitch 1.27mm, IPC Low Density)
pins: 1 VDD1 (power) "Side 1 power supply.", 2 A1 (in) "Side 1 digital input", 3 VDD1/NC (power) "Side 1 power supply", 4 GND1 (power) "Side 1 ground", 5 GND2 (power) "Side 2 ground.", 6 B1 (out) "Side 2 digital output.", 7 GND2/NC (power) "Side 2 ground", 8 VDD2 (power) "Side 2 power supply."

## Si8410AB-D-IS
designator U?
Low-Power Single and Dual-Channel Digital Isolator, 1 Mbps, 2.5 kVRMS Isolation Rating, -40 to 125 degC, 8-pin SOIC; Manufacturer: Silicon Labs; PartNumber: Si8410AB-D-IS; 10kV surge: FALSE; Channel Type: Unidirectional; Isolation Rating (kV): 2.5; Maximum Data Rate (Mbps): 1; Maximum Propagation Delay (ns): 35; Sub-Family: Isolators; DatasheetVersion: Rev. 1.4; PackageReference: SOIC-8-NB; PackageDescription: 8-Pin Narrow Body Plastic Small Outline, Body 4.9 x 3.9 mm, Pitch 1.27 mm; Supplier 1: Digi-Key; Supplier Part Number 1: 336-1751-5-ND; Supplier 2: Mouser; Supplier Part Number 2: 634-SI8410AB-D-IS; AEC-Q100: FALSE; Enable Control: FALSE; Mounting Technology: Surface Mount; ComponentLink1Description: Manufacturer URL; ComponentLink1URL: http://www.silabs.com/; ComponentLink2Description: Datasheet; ComponentLink2URL: http://www.silabs.com/Support%20Documents/TechnicalDocs/Si8410.pdf; ComponentLink3Description: Package Specification; ComponentLink3URL: http://www.silabs.com/Support%20Documents/TechnicalDocs/Si8220-21.pdf
footprint SLAB-SOIC-8-NB_N (SOIC, 8-Leads, Body 5x4mm, Pitch 1.27mm, IPC Medium Density)
footprint SLAB-SOIC-8-NB_L (SOIC, 8-Leads, Body 5x4mm, Pitch 1.27mm, IPC High Density)
footprint SLAB-SOIC-8-NB_M (SOIC, 8-Leads, Body 5x4mm, Pitch 1.27mm, IPC Low Density)
pins: 1 VDD1 (power) "Side 1 power supply.", 2 A1 (in) "Side 1 digital input", 3 VDD1/NC (power) "Side 1 power supply", 4 GND1 (power) "Side 1 ground", 5 GND2 (power) "Side 2 ground.", 6 B1 (out) "Side 2 digital output.", 7 GND2/NC (power) "Side 2 ground", 8 VDD2 (power) "Side 2 power supply."

## Si8410AD-A-IS
designator U?
Low-Power, Single and Dual-Channel Digital Isolator, 1 Mbps, 5 kVRMS Isolation Rating, -40 to 125 degC, 16-pin SOIC; Manufacturer: Silicon Labs; PartNumber: Si8410AD-A-IS; 10kV surge: FALSE; Channel Type: Unidirectional; Isolation Rating (kV): 5; Maximum Data Rate (Mbps): 1; Maximum Propagation Delay (ns): 35; Sub-Family: Isolators; DatasheetVersion: Rev. 1.2; PackageReference: SOIC-16-WB; PackageDescription: 16-Pin Wide Body Plastic Small Outline, Body 10.3 x 7.5 mm, Pitch 1.27 mm; Supplier 1: Digi-Key; Supplier Part Number 1: 336-1931-5-ND; Supplier 2: Mouser; Supplier Part Number 2: 634-SI8410AD-A-IS; AEC-Q100: FALSE; Enable Control: FALSE; Mounting Technology: Surface Mount; Code_JEDEC: MS-013; ComponentLink1Description: Manufacturer URL; ComponentLink1URL: http://www.silabs.com/; ComponentLink2Description: Datasheet; ComponentLink2URL: http://www.silabs.com/Support%20Documents/TechnicalDocs/Si841x-2x.pdf; ComponentLink3Description: Package Specification; ComponentLink3URL: https://www.silabs.com/Support%20Documents/TechnicalDocs/Si823x.pdf
footprint SLAB-SOIC-16-WB_N (SOIC, 16-Leads, Body 10.3x7.5mm, Pitch 1.27mm, IPC Medium Density)
footprint SLAB-SOIC-16-WB_L (SOIC, 16-Leads, Body 10.3x7.5mm, Pitch 1.27mm, IPC High Density)
footprint SLAB-SOIC-16-WB_M (SOIC, 16-Leads, Body 10.3x7.5mm, Pitch 1.27mm, IPC Low Density)
part A pins: 1 GND1 (power) "Side 1 ground.", 3 VDD1 (power) "Side 1 power supply.", 4 A1 (in) "Side 1 digital input.", 7 GND1 (power) "Side 1 ground.", 9 GND2 (power) "Side 2 ground.", 13 B1 (out) "Side 2 digital output.", 14 VDD2 (power) "Side 2 power supply.", 16 GND2 (power) "Side 2 ground."
part B pins: 2 NC "No Connect", 5 NC "No Connect", 6 NC "No Connect", 8 NC "No Connect", 10 NC "No Connect", 11 NC "No Connect", 12 NC "No Connect", 15 NC "No Connect"

## Si8410BB-C-IS
designator U?
Low-Power Single and Dual-Channel Digital Isolator, 150 Mbps, 2.5 kVRMS Isolation Rating, -40 to 125 degC, 8-pin SOIC; Manufacturer: Silicon Labs; PartNumber: Si8410BB-C-IS; 10kV surge: FALSE; Channel Type: Unidirectional; Isolation Rating (kV): 2.5; Maximum Data Rate (Mbps): 150; Maximum Propagation Delay (ns): 9.5; Sub-Family: Isolators; DatasheetVersion: Rev. 1.4; PackageReference: SOIC-8-NB; PackageDescription: 8-Pin Narrow Body Plastic Small Outline, Body 4.9 x 3.9 mm, Pitch 1.27 mm; Supplier 1: Mouser; Supplier Part Number 1: 634-SI8410BB-C-IS; AEC-Q100: FALSE; Enable Control: FALSE; Mounting Technology: Surface Mount; ComponentLink1Description: Manufacturer URL; ComponentLink1URL: http://www.silabs.com/; ComponentLink2Description: Datasheet; ComponentLink2URL: http://www.silabs.com/Support%20Documents/TechnicalDocs/Si8410.pdf; ComponentLink3Description: Package Specification; ComponentLink3URL: http://www.silabs.com/Support%20Documents/TechnicalDocs/Si8220-21.pdf
footprint SLAB-SOIC-8-NB_N (SOIC, 8-Leads, Body 5x4mm, Pitch 1.27mm, IPC Medium Density)
footprint SLAB-SOIC-8-NB_L (SOIC, 8-Leads, Body 5x4mm, Pitch 1.27mm, IPC High Density)
footprint SLAB-SOIC-8-NB_M (SOIC, 8-Leads, Body 5x4mm, Pitch 1.27mm, IPC Low Density)
pins: 1 VDD1 (power) "Side 1 power supply.", 2 A1 (in) "Side 1 digital input", 3 VDD1/NC (power) "Side 1 power supply", 4 GND1 (power) "Side 1 ground", 5 GND2 (power) "Side 2 ground.", 6 B1 (out) "Side 2 digital output.", 7 GND2/NC (power) "Side 2 ground", 8 VDD2 (power) "Side 2 power supply."

## Si8410BB-D-IS
designator U?
Low-Power Single and Dual-Channel Digital Isolator, 150 Mbps, 2.5 kVRMS Isolation Rating, -40 to 125 degC, 8-pin SOIC; Manufacturer: Silicon Labs; PartNumber: Si8410BB-D-IS; 10kV surge: FALSE; Channel Type: Unidirectional; Isolation Rating (kV): 2.5; Maximum Data Rate (Mbps): 150; Maximum Propagation Delay (ns): 9.5; Sub-Family: Isolators; DatasheetVersion: Rev. 1.4; PackageReference: SOIC-8-NB; PackageDescription: 8-Pin Narrow Body Plastic Small Outline, Body 4.9 x 3.9 mm, Pitch 1.27 mm; Supplier 1: Digi-Key; Supplier Part Number 1: 336-1752-5-ND; Supplier 2: Mouser; Supplier Part Number 2: 634-SI8410BB-D-IS; AEC-Q100: FALSE; Enable Control: FALSE; Mounting Technology: Surface Mount; ComponentLink1Description: Manufacturer URL; ComponentLink1URL: http://www.silabs.com/; ComponentLink2Description: Datasheet; ComponentLink2URL: http://www.silabs.com/Support%20Documents/TechnicalDocs/Si8410.pdf; ComponentLink3Description: Package Specification; ComponentLink3URL: http://www.silabs.com/Support%20Documents/TechnicalDocs/Si8220-21.pdf
footprint SLAB-SOIC-8-NB_N (SOIC, 8-Leads, Body 5x4mm, Pitch 1.27mm, IPC Medium Density)
footprint SLAB-SOIC-8-NB_L (SOIC, 8-Leads, Body 5x4mm, Pitch 1.27mm, IPC High Density)
footprint SLAB-SOIC-8-NB_M (SOIC, 8-Leads, Body 5x4mm, Pitch 1.27mm, IPC Low Density)
pins: 1 VDD1 (power) "Side 1 power supply.", 2 A1 (in) "Side 1 digital input", 3 VDD1/NC (power) "Side 1 power supply", 4 GND1 (power) "Side 1 ground", 5 GND2 (power) "Side 2 ground.", 6 B1 (out) "Side 2 digital output.", 7 GND2/NC (power) "Side 2 ground", 8 VDD2 (power) "Side 2 power supply."

## Si8410BD-A-IS
designator U?
Low-Power, Single and Dual-Channel Digital Isolator, 150 Mbps, 5 kVRMS Isolation Rating, -40 to 125 degC, 16-pin SOIC; Manufacturer: Silicon Labs; PartNumber: Si8410BD-A-IS; 10kV surge: FALSE; Channel Type: Unidirectional; Isolation Rating (kV): 5; Maximum Data Rate (Mbps): 150; Maximum Propagation Delay (ns): 11; Sub-Family: Isolators; DatasheetVersion: Rev. 1.2; PackageReference: SOIC-16-WB; PackageDescription: 16-Pin Wide Body Plastic Small Outline, Body 10.3 x 7.5 mm, Pitch 1.27 mm; Supplier 1: Digi-Key; Supplier Part Number 1: 336-1932-5-ND; Supplier 2: Mouser; Supplier Part Number 2: 634-SI8410BD-A-IS; AEC-Q100: FALSE; Enable Control: FALSE; Mounting Technology: Surface Mount; Code_JEDEC: MS-013; ComponentLink1Description: Manufacturer URL; ComponentLink1URL: http://www.silabs.com/; ComponentLink2Description: Datasheet; ComponentLink2URL: http://www.silabs.com/Support%20Documents/TechnicalDocs/Si841x-2x.pdf; ComponentLink3Description: Package Specification; ComponentLink3URL: https://www.silabs.com/Support%20Documents/TechnicalDocs/Si823x.pdf
footprint SLAB-SOIC-16-WB_N (SOIC, 16-Leads, Body 10.3x7.5mm, Pitch 1.27mm, IPC Medium Density)
footprint SLAB-SOIC-16-WB_L (SOIC, 16-Leads, Body 10.3x7.5mm, Pitch 1.27mm, IPC High Density)
footprint SLAB-SOIC-16-WB_M (SOIC, 16-Leads, Body 10.3x7.5mm, Pitch 1.27mm, IPC Low Density)
part A pins: 1 GND1 (power) "Side 1 ground.", 3 VDD1 (power) "Side 1 power supply.", 4 A1 (in) "Side 1 digital input.", 7 GND1 (power) "Side 1 ground.", 9 GND2 (power) "Side 2 ground.", 13 B1 (out) "Side 2 digital output.", 14 VDD2 (power) "Side 2 power supply.", 16 GND2 (power) "Side 2 ground."
part B pins: 2 NC "No Connect", 5 NC "No Connect", 6 NC "No Connect", 8 NC "No Connect", 10 NC "No Connect", 11 NC "No Connect", 12 NC "No Connect", 15 NC "No Connect"

## Si8420AB-C-IS
designator U?
Low-Power Single and Dual-Channel Digital Isolator, 1 Mbps, 2.5 kVRMS Isolation Rating, -40 to 125 degC, 8-pin SOIC; Manufacturer: Silicon Labs; PartNumber: Si8420AB-C-IS; Note: 0; 10kV surge: FALSE; Channel Type: Unidirectional; Isolation Rating (kV): 2.5; Maximum Data Rate (Mbps): 1; Maximum Propagation Delay (ns): 35; Sub-Family: Isolators; DatasheetVersion: Rev. 1.4; PackageReference: SOIC-8-NB; PackageDescription: 8-Pin Narrow Body Plastic Small Outline, Body 4.9 x 3.9 mm, Pitch 1.27 mm; AEC-Q100: FALSE; Enable Control: FALSE; Mounting Technology: Surface Mount; ComponentLink1Description: Manufacturer URL; ComponentLink1URL: http://www.silabs.com/; ComponentLink2Description: Datasheet; ComponentLink2URL: http://www.silabs.com/Support%20Documents/TechnicalDocs/Si8410.pdf; ComponentLink3Description: Package Specification; ComponentLink3URL: http://www.silabs.com/Support%20Documents/TechnicalDocs/Si8220-21.pdf
footprint SLAB-SOIC-8-NB_N (SOIC, 8-Leads, Body 5x4mm, Pitch 1.27mm, IPC Medium Density)
footprint SLAB-SOIC-8-NB_L (SOIC, 8-Leads, Body 5x4mm, Pitch 1.27mm, IPC High Density)
footprint SLAB-SOIC-8-NB_M (SOIC, 8-Leads, Body 5x4mm, Pitch 1.27mm, IPC Low Density)
pins: 1 VDD1 (power) "Side 1 power supply.", 2 A1 (in) "Side 1 digital input.", 3 A2 (in) "Side 1 digital input.", 4 GND1 (power) "Side 1 ground.", 5 GND2 (power) "Side 2 ground.", 6 B2 (out) "Side 2 digital output.", 7 B1 (out) "Side 2 digital output.", 8 VDD2 (power) "Side 2 power supply."

## Si8420AB-D-IS
designator U?
Low-Power Single and Dual-Channel Digital Isolator, 1 Mbps, 2.5 kVRMS Isolation Rating, -40 to 125 degC, 8-pin SOIC; Manufacturer: Silicon Labs; PartNumber: Si8420AB-D-IS; 10kV surge: FALSE; Channel Type: Unidirectional; Isolation Rating (kV): 2.5; Maximum Data Rate (Mbps): 1; Maximum Propagation Delay (ns): 35; Sub-Family: Isolators; DatasheetVersion: Rev. 1.4; PackageReference: SOIC-8-NB; PackageDescription: 8-Pin Narrow Body Plastic Small Outline, Body 4.9 x 3.9 mm, Pitch 1.27 mm; Supplier 1: Digi-Key; Supplier Part Number 1: 336-1753-5-ND; Supplier 2: Mouser; Supplier Part Number 2: 634-SI8420AB-D-IS; AEC-Q100: FALSE; Enable Control: FALSE; Mounting Technology: Surface Mount; ComponentLink1Description: Manufacturer URL; ComponentLink1URL: http://www.silabs.com/; ComponentLink2Description: Datasheet; ComponentLink2URL: http://www.silabs.com/Support%20Documents/TechnicalDocs/Si8410.pdf; ComponentLink3Description: Package Specification; ComponentLink3URL: http://www.silabs.com/Support%20Documents/TechnicalDocs/Si8220-21.pdf
footprint SLAB-SOIC-8-NB_N (SOIC, 8-Leads, Body 5x4mm, Pitch 1.27mm, IPC Medium Density)
footprint SLAB-SOIC-8-NB_L (SOIC, 8-Leads, Body 5x4mm, Pitch 1.27mm, IPC High Density)
footprint SLAB-SOIC-8-NB_M (SOIC, 8-Leads, Body 5x4mm, Pitch 1.27mm, IPC Low Density)
pins: 1 VDD1 (power) "Side 1 power supply.", 2 A1 (in) "Side 1 digital input.", 3 A2 (in) "Side 1 digital input.", 4 GND1 (power) "Side 1 ground.", 5 GND2 (power) "Side 2 ground.", 6 B2 (out) "Side 2 digital output.", 7 B1 (out) "Side 2 digital output.", 8 VDD2 (power) "Side 2 power supply."

## Si8420AD-A-IS
designator U?
Low-Power, Single and Dual-Channel Digital Isolator, 1 Mbps, 5 kVRMS Isolation Rating, -40 to 125 degC, 16-pin SOIC; Manufacturer: Silicon Labs; PartNumber: Si8420AD-A-IS; 10kV surge: FALSE; Channel Type: Unidirectional; Isolation Rating (kV): 5; Maximum Data Rate (Mbps): 1; Maximum Propagation Delay (ns): 35; Sub-Family: Isolators; DatasheetVersion: Rev. 1.2; PackageReference: SOIC-16-WB; PackageDescription: 16-Pin Wide Body Plastic Small Outline, Body 10.3 x 7.5 mm, Pitch 1.27 mm; Supplier 1: Digi-Key; Supplier Part Number 1: 336-1933-5-ND; Supplier 2: Mouser; Supplier Part Number 2: 634-SI8420AD-A-IS; AEC-Q100: FALSE; Enable Control: FALSE; Mounting Technology: Surface Mount; Code_JEDEC: MS-013; ComponentLink1Description: Manufacturer URL; ComponentLink1URL: http://www.silabs.com/; ComponentLink2Description: Datasheet; ComponentLink2URL: http://www.silabs.com/Support%20Documents/TechnicalDocs/Si841x-2x.pdf; ComponentLink3Description: Package Specification; ComponentLink3URL: https://www.silabs.com/Support%20Documents/TechnicalDocs/Si823x.pdf
footprint SLAB-SOIC-16-WB_N (SOIC, 16-Leads, Body 10.3x7.5mm, Pitch 1.27mm, IPC Medium Density)
footprint SLAB-SOIC-16-WB_L (SOIC, 16-Leads, Body 10.3x7.5mm, Pitch 1.27mm, IPC High Density)
footprint SLAB-SOIC-16-WB_M (SOIC, 16-Leads, Body 10.3x7.5mm, Pitch 1.27mm, IPC Low Density)
part A pins: 1 GND1 (power) "Side 1 ground.", 3 VDD1 (power) "Side 1 power supply.", 4 A1 (in) "Side 1 digital input.", 5 A2 (in) "Side 1 digital input.", 7 GND1 (power) "Side 1 ground.", 9 GND2 (power) "Side 2 ground.", 12 B2 (out) "Side 2 digital output.", 13 B1 (out) "Side 2 digital output.", 14 VDD2 (power) "Side 2 power supply.", 16 GND2 (power) "Side 2 ground."
part B pins: 2 NC "No Connect", 6 NC "No Connect", 8 NC "No Connect", 10 NC "No Connect", 11 NC "No Connect", 15 NC "No Connect"

## Si8420BB-C-IS
designator U?
Low-Power Single and Dual-Channel Digital Isolator, 150 Mbps, 2.5 kVRMS Isolation Rating, -40 to 125 degC, 8-pin SOIC; Manufacturer: Silicon Labs; PartNumber: Si8420BB-C-IS; 10kV surge: FALSE; Channel Type: Unidirectional; Isolation Rating (kV): 2.5; Maximum Data Rate (Mbps): 150; Maximum Propagation Delay (ns): 9.5; Sub-Family: Isolators; DatasheetVersion: Rev. 1.4; PackageReference: SOIC-8-NB; PackageDescription: 8-Pin Narrow Body Plastic Small Outline, Body 4.9 x 3.9 mm, Pitch 1.27 mm; Supplier 1: Mouser; Supplier Part Number 1: 634-SI8420BB-C-IS; AEC-Q100: FALSE; Enable Control: FALSE; Mounting Technology: Surface Mount; ComponentLink1Description: Manufacturer URL; ComponentLink1URL: http://www.silabs.com/; ComponentLink2Description: Datasheet; ComponentLink2URL: http://www.silabs.com/Support%20Documents/TechnicalDocs/Si8410.pdf; ComponentLink3Description: Package Specification; ComponentLink3URL: http://www.silabs.com/Support%20Documents/TechnicalDocs/Si8220-21.pdf
footprint SLAB-SOIC-8-NB_N (SOIC, 8-Leads, Body 5x4mm, Pitch 1.27mm, IPC Medium Density)
footprint SLAB-SOIC-8-NB_L (SOIC, 8-Leads, Body 5x4mm, Pitch 1.27mm, IPC High Density)
footprint SLAB-SOIC-8-NB_M (SOIC, 8-Leads, Body 5x4mm, Pitch 1.27mm, IPC Low Density)
pins: 1 VDD1 (power) "Side 1 power supply.", 2 A1 (in) "Side 1 digital input.", 3 A2 (in) "Side 1 digital input.", 4 GND1 (power) "Side 1 ground.", 5 GND2 (power) "Side 2 ground.", 6 B2 (out) "Side 2 digital output.", 7 B1 (out) "Side 2 digital output.", 8 VDD2 (power) "Side 2 power supply."